# Altium schematic symbol library JST.SchLib: 10 symbols
Pins are listed as number, name and electrical type; pins without a type are passive.

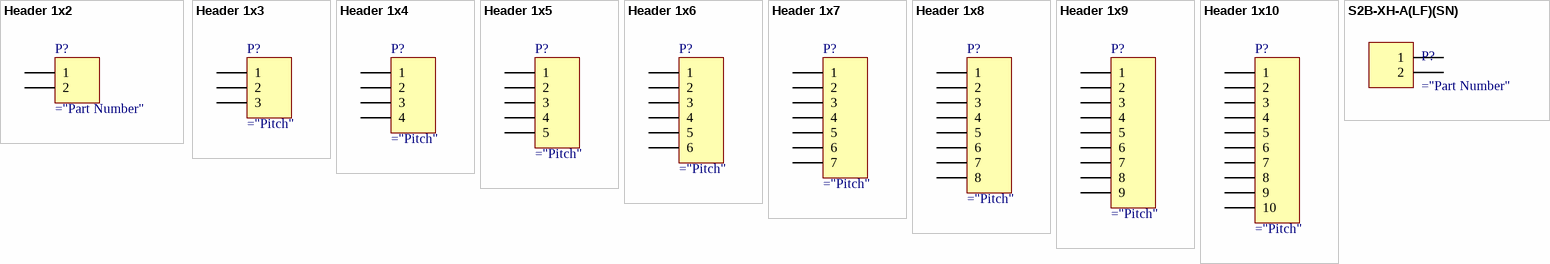
[diagram p0: symbols Header 1x2 to S2B-XH-A(LF)(SN)]

## Header 1x2
designator P?
pins: 1, 2

## Header 1x3
designator P?
pins: 1, 2, 3

## Header 1x4
designator P?
pins: 1, 2, 3, 4

## Header 1x5
designator P?
pins: 1, 2, 3, 4, 5

## Header 1x6
designator P?
pins: 1, 2, 3, 4, 5, 6

## Header 1x7
designator P?
pins: 1, 2, 3, 4, 5, 6, 7

## Header 1x8
designator P?
pins: 1, 2, 3, 4, 5, 6, 7, 8

## Header 1x9
designator P?
pins: 1, 2, 3, 4, 5, 6, 7, 8, 9

## Header 1x10
designator P?
pins: 1, 2, 3, 4, 5, 6, 7, 8, 9, 10

## S2B-XH-A(LF)(SN)
designator P?
pins: 1, 2